# Altium footprint library Footprint-Lib-ABahlmann-IC.PcbLib: 79 footprints (part 3 of 5)
Each footprint in its own frame and in the unit in brackets; x right, y up, seen from the top. Pads: shape width x height; smd on the part's side, far side on the other; paste and mask are expansions set on the pad; w line width, h text height; cw(c..) or ccw(c..) is an arc to the next point about the centre after c.
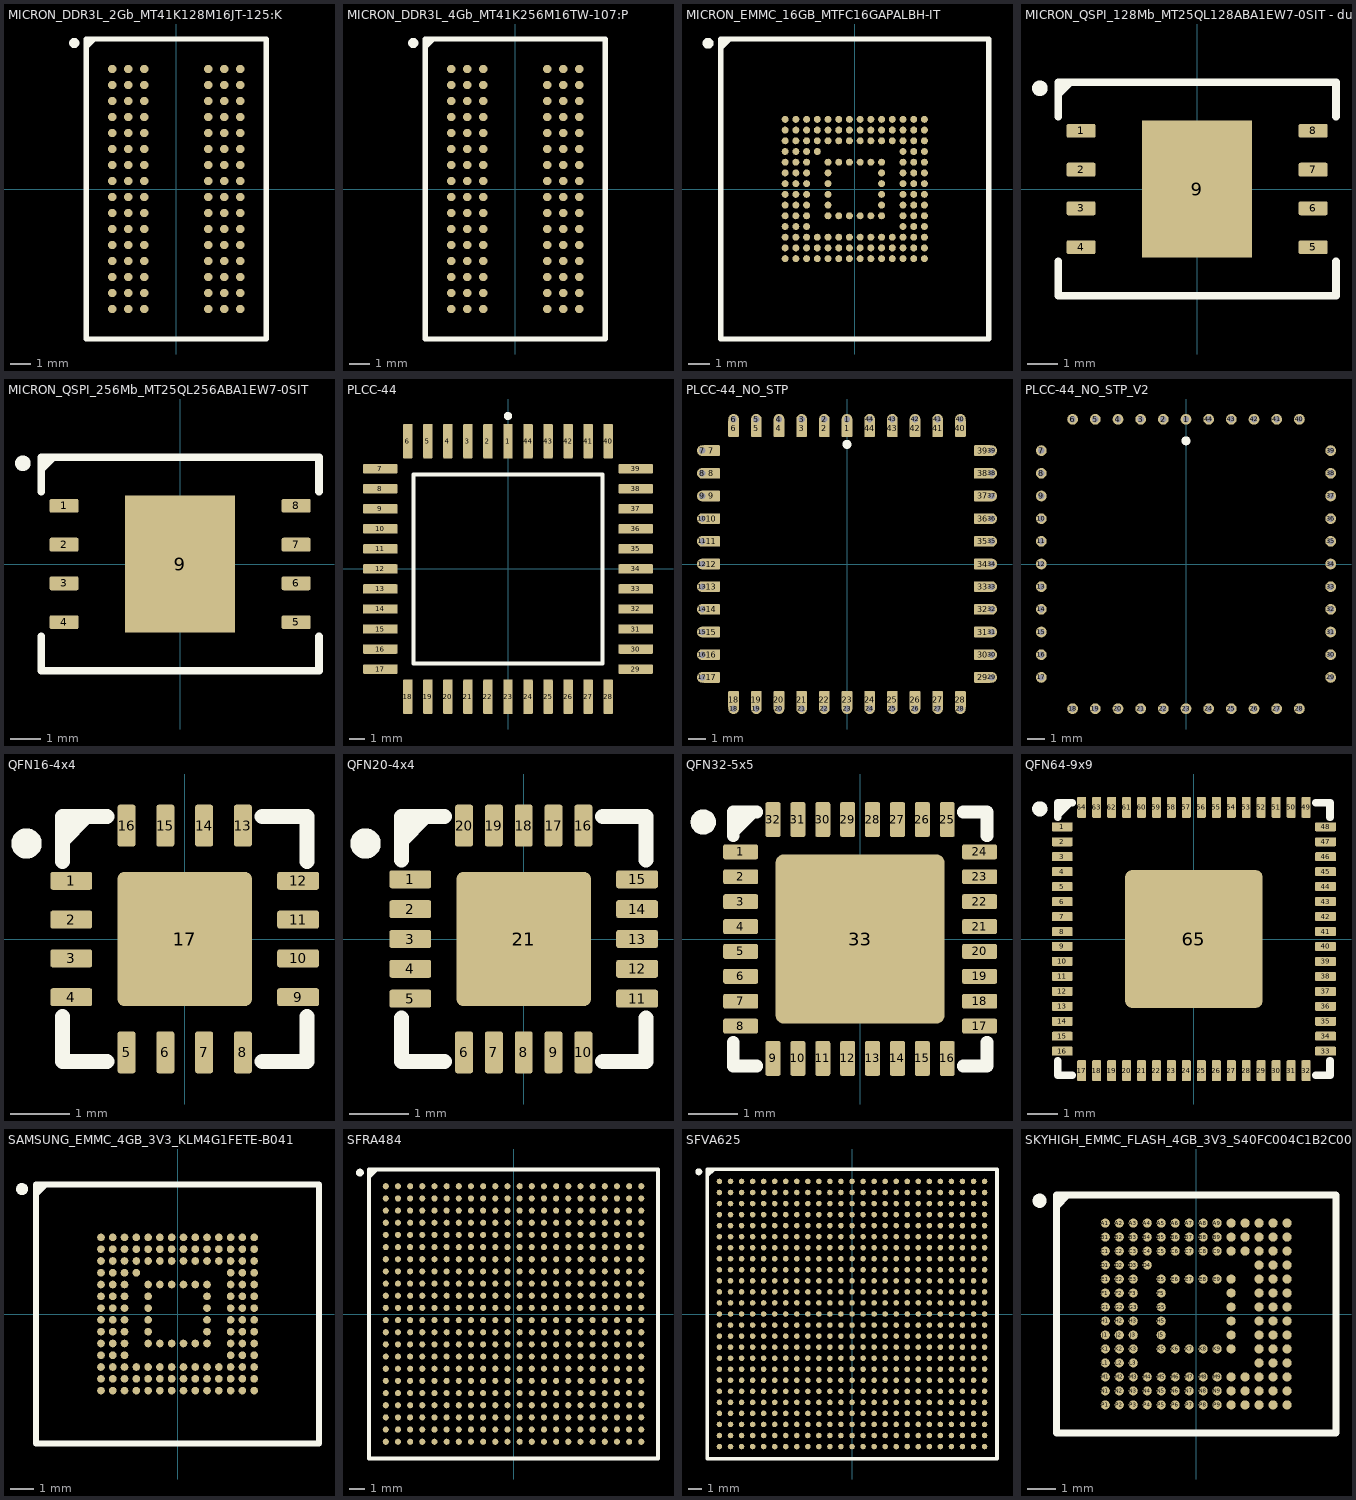
[diagram p2: the footprints below, top view; thin cyan lines are the x and y axes]

## MICRON_DDR3L_2Gb_MT41K128M16JT-125:K [mm] "SDRAM - DDR3L Memory IC 2Gbit Parallel 800 MHz 13.75 ns 96-FBGA (8x14)"
pads (96):
  round 0.42 smd mask+0.07: A1(-3.2,6) A2(-2.4,6) A3(-1.6,6) A7(1.6,6) A8(2.4,6) A9(3.2,6) B1(-3.2,5.2) B2(-2.4,5.2) B3(-1.6,5.2) B7(1.6,5.2) B8(2.4,5.2) B9(3.2,5.2) C1(-3.2,4.4) C2(-2.4,4.4) C3(-1.6,4.4) C7(1.6,4.4) C8(2.4,4.4) C9(3.2,4.4) D1(-3.2,3.6) D2(-2.4,3.6) D3(-1.6,3.6) D7(1.6,3.6) D8(2.4,3.6) D9(3.2,3.6) E1(-3.2,2.8) E2(-2.4,2.8) E3(-1.6,2.8) E7(1.6,2.8) E8(2.4,2.8) E9(3.2,2.8) F1(-3.2,2) F2(-2.4,2) F3(-1.6,2) F7(1.6,2) F8(2.4,2) F9(3.2,2) G1(-3.2,1.2) G2(-2.4,1.2) G3(-1.6,1.2) G7(1.6,1.2) G8(2.4,1.2) G9(3.2,1.2) H1(-3.2,0.4) H2(-2.4,0.4) H3(-1.6,0.4) H7(1.6,0.4) H8(2.4,0.4) H9(3.2,0.4) J1(-3.2,-0.4) J2(-2.4,-0.4) J3(-1.6,-0.4) J7(1.6,-0.4) J8(2.4,-0.4) J9(3.2,-0.4) K1(-3.2,-1.2) K2(-2.4,-1.2) K3(-1.6,-1.2) K7(1.6,-1.2) K8(2.4,-1.2) K9(3.2,-1.2) L1(-3.2,-2) L2(-2.4,-2) L3(-1.6,-2) L7(1.6,-2) L8(2.4,-2) L9(3.2,-2) M1(-3.2,-2.8) M2(-2.4,-2.8) M3(-1.6,-2.8) M7(1.6,-2.8) M8(2.4,-2.8) M9(3.2,-2.8) N1(-3.2,-3.6) N2(-2.4,-3.6) N3(-1.6,-3.6) N7(1.6,-3.6) N8(2.4,-3.6) N9(3.2,-3.6) P1(-3.2,-4.4) P2(-2.4,-4.4) P3(-1.6,-4.4) P7(1.6,-4.4) P8(2.4,-4.4) P9(3.2,-4.4) R1(-3.2,-5.2) R2(-2.4,-5.2) R3(-1.6,-5.2) R7(1.6,-5.2) R8(2.4,-5.2) R9(3.2,-5.2) T1(-3.2,-6) T2(-2.4,-6) T3(-1.6,-6) T7(1.6,-6) T8(2.4,-6) T9(3.2,-6)
Top Overlay:
  circle w0.254: c-5.1,7.3 r0.127
  lines w0.254: -4.5,7.1 -4.1,7.5 ; -4.5,-7.5 4.5,-7.5 4.5,7.5 -4.5,7.5 -4.5,-7.5
3D body "MT41K128M16JT-125_IT_K_TR.stp": height 1.2, standoff 0, extent -4,-7 4,7

## MICRON_DDR3L_4Gb_MT41K256M16TW-107:P [mm] "SDRAM - DDR3L Memory IC 4Gbit Parallel 933 MHz 20 ns 96-FBGA (8x14)"
pads (96):
  round 0.42 smd mask+0.07: A1(-3.2,6) A2(-2.4,6) A3(-1.6,6) A7(1.6,6) A8(2.4,6) A9(3.2,6) B1(-3.2,5.2) B2(-2.4,5.2) B3(-1.6,5.2) B7(1.6,5.2) B8(2.4,5.2) B9(3.2,5.2) C1(-3.2,4.4) C2(-2.4,4.4) C3(-1.6,4.4) C7(1.6,4.4) C8(2.4,4.4) C9(3.2,4.4) D1(-3.2,3.6) D2(-2.4,3.6) D3(-1.6,3.6) D7(1.6,3.6) D8(2.4,3.6) D9(3.2,3.6) E1(-3.2,2.8) E2(-2.4,2.8) E3(-1.6,2.8) E7(1.6,2.8) E8(2.4,2.8) E9(3.2,2.8) F1(-3.2,2) F2(-2.4,2) F3(-1.6,2) F7(1.6,2) F8(2.4,2) F9(3.2,2) G1(-3.2,1.2) G2(-2.4,1.2) G3(-1.6,1.2) G7(1.6,1.2) G8(2.4,1.2) G9(3.2,1.2) H1(-3.2,0.4) H2(-2.4,0.4) H3(-1.6,0.4) H7(1.6,0.4) H8(2.4,0.4) H9(3.2,0.4) J1(-3.2,-0.4) J2(-2.4,-0.4) J3(-1.6,-0.4) J7(1.6,-0.4) J8(2.4,-0.4) J9(3.2,-0.4) K1(-3.2,-1.2) K2(-2.4,-1.2) K3(-1.6,-1.2) K7(1.6,-1.2) K8(2.4,-1.2) K9(3.2,-1.2) L1(-3.2,-2) L2(-2.4,-2) L3(-1.6,-2) L7(1.6,-2) L8(2.4,-2) L9(3.2,-2) M1(-3.2,-2.8) M2(-2.4,-2.8) M3(-1.6,-2.8) M7(1.6,-2.8) M8(2.4,-2.8) M9(3.2,-2.8) N1(-3.2,-3.6) N2(-2.4,-3.6) N3(-1.6,-3.6) N7(1.6,-3.6) N8(2.4,-3.6) N9(3.2,-3.6) P1(-3.2,-4.4) P2(-2.4,-4.4) P3(-1.6,-4.4) P7(1.6,-4.4) P8(2.4,-4.4) P9(3.2,-4.4) R1(-3.2,-5.2) R2(-2.4,-5.2) R3(-1.6,-5.2) R7(1.6,-5.2) R8(2.4,-5.2) R9(3.2,-5.2) T1(-3.2,-6) T2(-2.4,-6) T3(-1.6,-6) T7(1.6,-6) T8(2.4,-6) T9(3.2,-6)
Top Overlay:
  circle w0.254: c-5.1,7.3 r0.127
  lines w0.254: -4.5,7.1 -4.1,7.5 ; -4.5,-7.5 -4.5,7.5 4.5,7.5 4.5,-7.5 -4.5,-7.5
3D body "MT41K256M16TW-107_P.stp": height 1.2, standoff 0, extent -4,-7 4,7

## MICRON_EMMC_16GB_MTFC16GAPALBH-IT [mm] "FLASH - NAND Memory IC 128Gbit MMC 153-TFBGA (11.5x13)"
pads (153):
  round 0.325 smd mask+0.05: A1(-3.25,3.25) A2(-2.75,3.25) A3(-2.25,3.25) A4(-1.75,3.25) A5(-1.25,3.25) A6(-0.75,3.25) A7(-0.25,3.25) A8(0.25,3.25) A9(0.75,3.25) A10(1.25,3.25) A11(1.75,3.25) A12(2.25,3.25) A13(2.75,3.25) A14(3.25,3.25) B1(-3.25,2.75) B2(-2.75,2.75) B3(-2.25,2.75) B4(-1.75,2.75) B5(-1.25,2.75) B6(-0.75,2.75) B7(-0.25,2.75) B8(0.25,2.75) B9(0.75,2.75) B10(1.25,2.75) B11(1.75,2.75) B12(2.25,2.75) B13(2.75,2.75) B14(3.25,2.75) C1(-3.25,2.25) C2(-2.75,2.25) C3(-2.25,2.25) C4(-1.75,2.25) C5(-1.25,2.25) C6(-0.75,2.25) C7(-0.25,2.25) C8(0.25,2.25) C9(0.75,2.25) C10(1.25,2.25) C11(1.75,2.25) C12(2.25,2.25) C13(2.75,2.25) C14(3.25,2.25) D1(-3.25,1.75) D2(-2.75,1.75) D3(-2.25,1.75) D4(-1.75,1.75) D12(2.25,1.75) D13(2.75,1.75) D14(3.25,1.75) E1(-3.25,1.25) E2(-2.75,1.25) E3(-2.25,1.25) E5(-1.25,1.25) E6(-0.75,1.25) E7(-0.25,1.25) E8(0.25,1.25) E9(0.75,1.25) E10(1.25,1.25) E12(2.25,1.25) E13(2.75,1.25) E14(3.25,1.25) F1(-3.25,0.75) F2(-2.75,0.75) F3(-2.25,0.75) F5(-1.25,0.75) F10(1.25,0.75) F12(2.25,0.75) F13(2.75,0.75) F14(3.25,0.75) G1(-3.25,0.25) G2(-2.75,0.25) G3(-2.25,0.25) G5(-1.25,0.25) G10(1.25,0.25) G12(2.25,0.25) G13(2.75,0.25) G14(3.25,0.25) H1(-3.25,-0.25) H2(-2.75,-0.25) H3(-2.25,-0.25) H5(-1.25,-0.25) H10(1.25,-0.25) H12(2.25,-0.25) H13(2.75,-0.25) H14(3.25,-0.25) J1(-3.25,-0.75) J2(-2.75,-0.75) J3(-2.25,-0.75) J5(-1.25,-0.75) J10(1.25,-0.75) J12(2.25,-0.75) J13(2.75,-0.75) J14(3.25,-0.75) K1(-3.25,-1.25) K2(-2.75,-1.25) K3(-2.25,-1.25) K5(-1.25,-1.25) K6(-0.75,-1.25) K7(-0.25,-1.25) K8(0.25,-1.25) K9(0.75,-1.25) K10(1.25,-1.25) K12(2.25,-1.25) K13(2.75,-1.25) K14(3.25,-1.25) L1(-3.25,-1.75) L2(-2.75,-1.75) L3(-2.25,-1.75) L12(2.25,-1.75) L13(2.75,-1.75) L14(3.25,-1.75) M1(-3.25,-2.25) M2(-2.75,-2.25) M3(-2.25,-2.25) M4(-1.75,-2.25) M5(-1.25,-2.25) M6(-0.75,-2.25) M7(-0.25,-2.25) M8(0.25,-2.25) M9(0.75,-2.25) M10(1.25,-2.25) M11(1.75,-2.25) M12(2.25,-2.25) M13(2.75,-2.25) M14(3.25,-2.25) N1(-3.25,-2.75) N2(-2.75,-2.75) N3(-2.25,-2.75) N4(-1.75,-2.75) N5(-1.25,-2.75) N6(-0.75,-2.75) N7(-0.25,-2.75) N8(0.25,-2.75) N9(0.75,-2.75) N10(1.25,-2.75) N11(1.75,-2.75) N12(2.25,-2.75) N13(2.75,-2.75) N14(3.25,-2.75) P1(-3.25,-3.25) P2(-2.75,-3.25) P3(-2.25,-3.25) P4(-1.75,-3.25) P5(-1.25,-3.25) P6(-0.75,-3.25) P7(-0.25,-3.25) P8(0.25,-3.25) P9(0.75,-3.25) P10(1.25,-3.25) P11(1.75,-3.25) P12(2.25,-3.25) P13(2.75,-3.25) P14(3.25,-3.25)
Top Overlay:
  circle w0.254: c-6.85,6.8 r0.127
  lines w0.254: -6.25,6.6 -5.85,7 ; -6.25,-7 6.25,-7 6.25,7 -6.25,7 -6.25,-7
3D body "MTFC16GAPALBH-IT.stp": height 0.79, standoff 0, extent -5.75,-6.5 5.75,6.5

## MICRON_QSPI_128Mb_MT25QL128ABA1EW7-0SIT - duplicate [mm] "FLASH - NOR Memory IC 128Mbit SPI - Quad I/O 133 MHz 8-WPDFN (6x5)(MLP8)"
pads (9):
  rrect25% 0.95x0.45 smd mask+0.1: 1(-3.8,1.905) 2(-3.8,0.635) 3(-3.8,-0.635) 4(-3.8,-1.905) 5(3.8,-1.905) 6(3.8,-0.635) 7(3.8,0.635) 8(3.8,1.905)
  rect 3.6x4.5 smd mask+0.1: 9(0,0)
Top Overlay:
  circle w0.254: c-5.15,3.3 r0.127
  lines w0.254: -4.55,-2.375 -4.55,-3.5 4.55,-3.5 4.55,-2.375 ; -4.55,2.375 -4.55,3.5 4.55,3.5 4.55,2.375 ; -4.55,3.1 -4.15,3.5
3D body "MT25QL128ABA1EW7-0SIT.stp": height 0.8, standoff 0, extent -4.05,-3 4.05,3

## MICRON_QSPI_256Mb_MT25QL256ABA1EW7-0SIT [mm] "FLASH - NOR Memory IC 256Mbit SPI - Quad I/O 133 MHz 8-WPDFN (6x5)(MLP8)8)"
pads (9):
  rrect25% 0.95x0.45 smd mask+0.1: 1(-3.8,1.905) 2(-3.8,0.635) 3(-3.8,-0.635) 4(-3.8,-1.905) 5(3.8,-1.905) 6(3.8,-0.635) 7(3.8,0.635) 8(3.8,1.905)
  rect 3.6x4.5 smd mask+0.1: 9(0,0)
Top Overlay:
  circle w0.254: c-5.15,3.3 r0.127
  lines w0.254: -4.55,-2.375 -4.55,-3.5 4.55,-3.5 4.55,-2.375 ; -4.55,2.375 -4.55,3.5 4.55,3.5 4.55,2.375 ; -4.55,3.1 -4.15,3.5
3D body "MT25QL128ABA1EW7-0SIT.stp": height 0.8, standoff 0, extent -4.05,-3 4.05,3

## PLCC-44 [mm]
pads (44):
  rrect25% 0.6x2.2 smd: 1(0,8.1) 2(-1.27,8.1) 3(-2.54,8.1) 4(-3.81,8.1) 5(-5.08,8.1) 6(-6.35,8.1) 18(-6.35,-8.1) 19(-5.08,-8.1) 20(-3.81,-8.1) 21(-2.54,-8.1) 22(-1.27,-8.1) 23(0,-8.1) 24(1.27,-8.1) 25(2.54,-8.1) 26(3.81,-8.1) 27(5.08,-8.1) 28(6.35,-8.1) 40(6.35,8.1) 41(5.08,8.1) 42(3.81,8.1) 43(2.54,8.1) 44(1.27,8.1)
  rrect25% 2.2x0.6 smd: 7(-8.1,6.35) 8(-8.1,5.08) 9(-8.1,3.81) 10(-8.1,2.54) 11(-8.1,1.27) 12(-8.1,0) 13(-8.1,-1.27) 14(-8.1,-2.54) 15(-8.1,-3.81) 16(-8.1,-5.08) 17(-8.1,-6.35) 29(8.1,-6.35) 30(8.1,-5.08) 31(8.1,-3.81) 32(8.1,-2.54) 33(8.1,-1.27) 34(8.1,0) 35(8.1,1.27) 36(8.1,2.54) 37(8.1,3.81) 38(8.1,5.08) 39(8.1,6.35)
Top Overlay:
  circle w0.254: c0,9.7 r0.127
  lines w0.254: -6,-6 -6,6 6,6 6,-6 -6,-6
3D body "User Library-PLCC44-1.step": height 4.35, standoff -0.01, extent -8.8,-8.75 8.8,8.85

## PLCC-44_NO_STP [mm]
pads (88):
  rrect25% 0.6x1 smd: 1(0,7.6) 2(-1.27,7.6) 3(-2.54,7.6) 4(-3.81,7.6) 5(-5.08,7.6) 6(-6.35,7.6) 18(-6.35,-7.6) 19(-5.08,-7.6) 20(-3.81,-7.6) 21(-2.54,-7.6) 22(-1.27,-7.6) 23(0,-7.6) 24(1.27,-7.6) 25(2.54,-7.6) 26(3.81,-7.6) 27(5.08,-7.6) 28(6.35,-7.6) 40(6.35,7.6) 41(5.08,7.6) 42(3.81,7.6) 43(2.54,7.6) 44(1.27,7.6)
  round 0.6 hole 0.35: 1(0,8.1) 2(-1.27,8.1) 3(-2.54,8.1) 4(-3.81,8.1) 5(-5.08,8.1) 6(-6.35,8.1) 7(-8.1,6.35) 8(-8.1,5.08) 9(-8.1,3.81) 10(-8.1,2.54) 11(-8.1,1.27) 12(-8.1,0) 13(-8.1,-1.27) 14(-8.1,-2.54) 15(-8.1,-3.81) 16(-8.1,-5.08) 17(-8.1,-6.35) 18(-6.35,-8.1) 19(-5.08,-8.1) 20(-3.81,-8.1) 21(-2.54,-8.1) 22(-1.27,-8.1) 23(0,-8.1) 24(1.27,-8.1) 25(2.54,-8.1) 26(3.81,-8.1) 27(5.08,-8.1) 28(6.35,-8.1) 29(8.1,-6.35) 30(8.1,-5.08) 31(8.1,-3.81) 32(8.1,-2.54) 33(8.1,-1.27) 34(8.1,0) 35(8.1,1.27) 36(8.1,2.54) 37(8.1,3.81) 38(8.1,5.08) 39(8.1,6.35) 40(6.35,8.1) 41(5.08,8.1) 42(3.81,8.1) 43(2.54,8.1) 44(1.27,8.1)
  rrect25% 1x0.6 smd: 7(-7.6,6.35) 8(-7.6,5.08) 9(-7.6,3.81) 10(-7.6,2.54) 11(-7.6,1.27) 12(-7.6,0) 13(-7.6,-1.27) 14(-7.6,-2.54) 15(-7.6,-3.81) 16(-7.6,-5.08) 17(-7.6,-6.35) 29(7.6,-6.35) 30(7.6,-5.08) 31(7.6,-3.81) 32(7.6,-2.54) 33(7.6,-1.27) 34(7.6,0) 35(7.6,1.27) 36(7.6,2.54) 37(7.6,3.81) 38(7.6,5.08) 39(7.6,6.35)
Top Overlay:
  circle w0.254: c0,6.7 r0.127
Bottom Overlay:
  circle w0.254: c0,6.7 r0.127

## PLCC-44_NO_STP_V2 [mm]
pads (44):
  round 0.6 hole 0.35: 1(0,8.1) 2(-1.27,8.1) 3(-2.54,8.1) 4(-3.81,8.1) 5(-5.08,8.1) 6(-6.35,8.1) 7(-8.1,6.35) 8(-8.1,5.08) 9(-8.1,3.81) 10(-8.1,2.54) 11(-8.1,1.27) 12(-8.1,0) 13(-8.1,-1.27) 14(-8.1,-2.54) 15(-8.1,-3.81) 16(-8.1,-5.08) 17(-8.1,-6.35) 18(-6.35,-8.1) 19(-5.08,-8.1) 20(-3.81,-8.1) 21(-2.54,-8.1) 22(-1.27,-8.1) 23(0,-8.1) 24(1.27,-8.1) 25(2.54,-8.1) 26(3.81,-8.1) 27(5.08,-8.1) 28(6.35,-8.1) 29(8.1,-6.35) 30(8.1,-5.08) 31(8.1,-3.81) 32(8.1,-2.54) 33(8.1,-1.27) 34(8.1,0) 35(8.1,1.27) 36(8.1,2.54) 37(8.1,3.81) 38(8.1,5.08) 39(8.1,6.35) 40(6.35,8.1) 41(5.08,8.1) 42(3.81,8.1) 43(2.54,8.1) 44(1.27,8.1)
Top Overlay:
  circle w0.254: c0,6.9 r0.127
Bottom Overlay:
  circle w0.254: c0,6.9 r0.127

## QFN16-4x4 [mm]
pads (17):
  rrect25% 0.7x0.3 smd mask+0.05: 1(-1.9,0.975) 2(-1.9,0.325) 3(-1.9,-0.325) 4(-1.9,-0.975) 9(1.9,-0.975) 10(1.9,-0.325) 11(1.9,0.325) 12(1.9,0.975)
  rrect25% 0.3x0.7 smd mask+0.05: 5(-0.975,-1.9) 6(-0.325,-1.9) 7(0.325,-1.9) 8(0.975,-1.9) 13(0.975,1.9) 14(0.325,1.9) 15(-0.325,1.9) 16(-0.975,1.9)
  rrect10% 2.25x2.25 smd mask+0.05: 17(0,0)
Top Overlay:
  circle w0.254: c-2.65,1.6 r0.127
  lines w0.254: -2.05,-1.3 -2.05,-2.05 -1.3,-2.05 ; -2.05,1.3 -2.05,2.05 -1.3,2.05 ; -2.05,1.65 -1.65,2.05 ; 1.3,-2.05 2.05,-2.05 2.05,-1.3 ; 1.3,2.05 2.05,2.05 2.05,1.3
3D body "FT230XQ-R.stp": height 0.81, standoff 0.01, extent -2.05,-2.05 2.05,2.05

## QFN20-4x4 [mm]
pads (21):
  rrect25% 0.7x0.3 smd mask+0.05: 1(-1.9,1) 2(-1.9,0.5) 3(-1.9,0) 4(-1.9,-0.5) 5(-1.9,-1) 11(1.9,-1) 12(1.9,-0.5) 13(1.9,0) 14(1.9,0.5) 15(1.9,1)
  rrect25% 0.3x0.7 smd mask+0.05: 6(-1,-1.9) 7(-0.5,-1.9) 8(0,-1.9) 9(0.5,-1.9) 10(1,-1.9) 16(1,1.9) 17(0.5,1.9) 18(0,1.9) 19(-0.5,1.9) 20(-1,1.9)
  rrect10% 2.25x2.25 smd mask+0.05: 21(0,0)
Top Overlay:
  circle w0.254: c-2.65,1.6 r0.127
  lines w0.254: -2.05,-1.325 -2.05,-2.05 -1.325,-2.05 ; -2.05,1.325 -2.05,2.05 -1.325,2.05 ; -2.05,1.65 -1.65,2.05 ; 1.325,-2.05 2.05,-2.05 2.05,-1.325 ; 1.325,2.05 2.05,2.05 2.05,1.325
3D body "FT231XQ-R.stp": height 0.8, standoff 0, extent -2.05,-2.05 2.05,2.05

## QFN32-5x5 [mm]
pads (33):
  rrect25% 0.7x0.3 smd mask+0.05: 1(-2.4,1.75) 2(-2.4,1.25) 3(-2.4,0.75) 4(-2.4,0.25) 5(-2.4,-0.25) 6(-2.4,-0.75) 7(-2.4,-1.25) 8(-2.4,-1.75) 17(2.4,-1.75) 18(2.4,-1.25) 19(2.4,-0.75) 20(2.4,-0.25) 21(2.4,0.25) 22(2.4,0.75) 23(2.4,1.25) 24(2.4,1.75)
  rrect25% 0.3x0.7 smd mask+0.05: 9(-1.75,-2.4) 10(-1.25,-2.4) 11(-0.75,-2.4) 12(-0.25,-2.4) 13(0.25,-2.4) 14(0.75,-2.4) 15(1.25,-2.4) 16(1.75,-2.4) 25(1.75,2.4) 26(1.25,2.4) 27(0.75,2.4) 28(0.25,2.4) 29(-0.25,2.4) 30(-0.75,2.4) 31(-1.25,2.4) 32(-1.75,2.4)
  rrect10% 3.4x3.4 smd mask+0.05: 33(0,0)
Top Overlay:
  circle w0.254: c-3.15,2.35 r0.127
  lines w0.254: -2.55,-2.075 -2.55,-2.55 -2.075,-2.55 ; -2.55,2.075 -2.55,2.55 -2.075,2.55 ; -2.55,2.15 -2.15,2.55 ; 2.075,-2.55 2.55,-2.55 2.55,-2.075 ; 2.075,2.55 2.55,2.55 2.55,2.075
3D body "FT232RNQ-REEL.stp": height 0.9, standoff 0, extent -2.55,-2.55 2.55,2.55

## QFN64-9x9 [mm]
pads (65):
  rrect25% 0.7x0.3 smd mask+0.05: 1(-4.4,3.75) 2(-4.4,3.25) 3(-4.4,2.75) 4(-4.4,2.25) 5(-4.4,1.75) 6(-4.4,1.25) 7(-4.4,0.75) 8(-4.4,0.25) 9(-4.4,-0.25) 10(-4.4,-0.75) 11(-4.4,-1.25) 12(-4.4,-1.75) 13(-4.4,-2.25) 14(-4.4,-2.75) 15(-4.4,-3.25) 16(-4.4,-3.75) 33(4.4,-3.75) 34(4.4,-3.25) 35(4.4,-2.75) 36(4.4,-2.25) 37(4.4,-1.75) 38(4.4,-1.25) 39(4.4,-0.75) 40(4.4,-0.25) 41(4.4,0.25) 42(4.4,0.75) 43(4.4,1.25) 44(4.4,1.75) 45(4.4,2.25) 46(4.4,2.75) 47(4.4,3.25) 48(4.4,3.75)
  rrect25% 0.3x0.7 smd mask+0.05: 17(-3.75,-4.4) 18(-3.25,-4.4) 19(-2.75,-4.4) 20(-2.25,-4.4) 21(-1.75,-4.4) 22(-1.25,-4.4) 23(-0.75,-4.4) 24(-0.25,-4.4) 25(0.25,-4.4) 26(0.75,-4.4) 27(1.25,-4.4) 28(1.75,-4.4) 29(2.25,-4.4) 30(2.75,-4.4) 31(3.25,-4.4) 32(3.75,-4.4) 49(3.75,4.4) 50(3.25,4.4) 51(2.75,4.4) 52(2.25,4.4) 53(1.75,4.4) 54(1.25,4.4) 55(0.75,4.4) 56(0.25,4.4) 57(-0.25,4.4) 58(-0.75,4.4) 59(-1.25,4.4) 60(-1.75,4.4) 61(-2.25,4.4) 62(-2.75,4.4) 63(-3.25,4.4) 64(-3.75,4.4)
  rrect10% 4.6x4.6 smd mask+0.05: 65(0,0)
Top Overlay:
  circle w0.254: c-5.15,4.35 r0.127
  lines w0.254: -4.55,-4.075 -4.55,-4.55 -4.075,-4.55 ; -4.55,4.075 -4.55,4.55 -4.075,4.55 ; -4.55,4.15 -4.15,4.55 ; 4.075,-4.55 4.55,-4.55 4.55,-4.075 ; 4.075,4.55 4.55,4.55 4.55,4.075
3D body "FT2232HQ-FT4232HQ-REEL.stp": height 1, standoff 0, extent -4.55,-4.55 4.55,4.55

## SAMSUNG_EMMC_4GB_3V3_KLM4G1FETE-B041 [mm] "FLASH - NAND Memory IC 4GByte (NAND) eMMC_5.1"
pads (153):
  round 0.325 smd mask+0.05: A1(-3.25,3.25) A2(-2.75,3.25) A3(-2.25,3.25) A4(-1.75,3.25) A5(-1.25,3.25) A6(-0.75,3.25) A7(-0.25,3.25) A8(0.25,3.25) A9(0.75,3.25) A10(1.25,3.25) A11(1.75,3.25) A12(2.25,3.25) A13(2.75,3.25) A14(3.25,3.25) B1(-3.25,2.75) B2(-2.75,2.75) B3(-2.25,2.75) B4(-1.75,2.75) B5(-1.25,2.75) B6(-0.75,2.75) B7(-0.25,2.75) B8(0.25,2.75) B9(0.75,2.75) B10(1.25,2.75) B11(1.75,2.75) B12(2.25,2.75) B13(2.75,2.75) B14(3.25,2.75) C1(-3.25,2.25) C2(-2.75,2.25) C3(-2.25,2.25) C4(-1.75,2.25) C5(-1.25,2.25) C6(-0.75,2.25) C7(-0.25,2.25) C8(0.25,2.25) C9(0.75,2.25) C10(1.25,2.25) C11(1.75,2.25) C12(2.25,2.25) C13(2.75,2.25) C14(3.25,2.25) D1(-3.25,1.75) D2(-2.75,1.75) D3(-2.25,1.75) D4(-1.75,1.75) D12(2.25,1.75) D13(2.75,1.75) D14(3.25,1.75) E1(-3.25,1.25) E2(-2.75,1.25) E3(-2.25,1.25) E5(-1.25,1.25) E6(-0.75,1.25) E7(-0.25,1.25) E8(0.25,1.25) E9(0.75,1.25) E10(1.25,1.25) E12(2.25,1.25) E13(2.75,1.25) E14(3.25,1.25) F1(-3.25,0.75) F2(-2.75,0.75) F3(-2.25,0.75) F5(-1.25,0.75) F10(1.25,0.75) F12(2.25,0.75) F13(2.75,0.75) F14(3.25,0.75) G1(-3.25,0.25) G2(-2.75,0.25) G3(-2.25,0.25) G5(-1.25,0.25) G10(1.25,0.25) G12(2.25,0.25) G13(2.75,0.25) G14(3.25,0.25) H1(-3.25,-0.25) H2(-2.75,-0.25) H3(-2.25,-0.25) H5(-1.25,-0.25) H10(1.25,-0.25) H12(2.25,-0.25) H13(2.75,-0.25) H14(3.25,-0.25) J1(-3.25,-0.75) J2(-2.75,-0.75) J3(-2.25,-0.75) J5(-1.25,-0.75) J10(1.25,-0.75) J12(2.25,-0.75) J13(2.75,-0.75) J14(3.25,-0.75) K1(-3.25,-1.25) K2(-2.75,-1.25) K3(-2.25,-1.25) K5(-1.25,-1.25) K6(-0.75,-1.25) K7(-0.25,-1.25) K8(0.25,-1.25) K9(0.75,-1.25) K10(1.25,-1.25) K12(2.25,-1.25) K13(2.75,-1.25) K14(3.25,-1.25) L1(-3.25,-1.75) L2(-2.75,-1.75) L3(-2.25,-1.75) L12(2.25,-1.75) L13(2.75,-1.75) L14(3.25,-1.75) M1(-3.25,-2.25) M2(-2.75,-2.25) M3(-2.25,-2.25) M4(-1.75,-2.25) M5(-1.25,-2.25) M6(-0.75,-2.25) M7(-0.25,-2.25) M8(0.25,-2.25) M9(0.75,-2.25) M10(1.25,-2.25) M11(1.75,-2.25) M12(2.25,-2.25) M13(2.75,-2.25) M14(3.25,-2.25) N1(-3.25,-2.75) N2(-2.75,-2.75) N3(-2.25,-2.75) N4(-1.75,-2.75) N5(-1.25,-2.75) N6(-0.75,-2.75) N7(-0.25,-2.75) N8(0.25,-2.75) N9(0.75,-2.75) N10(1.25,-2.75) N11(1.75,-2.75) N12(2.25,-2.75) N13(2.75,-2.75) N14(3.25,-2.75) P1(-3.25,-3.25) P2(-2.75,-3.25) P3(-2.25,-3.25) P4(-1.75,-3.25) P5(-1.25,-3.25) P6(-0.75,-3.25) P7(-0.25,-3.25) P8(0.25,-3.25) P9(0.75,-3.25) P10(1.25,-3.25) P11(1.75,-3.25) P12(2.25,-3.25) P13(2.75,-3.25) P14(3.25,-3.25)
Top Overlay:
  circle w0.254: c-6.6,5.3 r0.127
  lines w0.254: -6,5.1 -5.6,5.5 ; -6,-5.5 -6,5.5 6,5.5 6,-5.5 -6,-5.5
3D body "FBGA-153-11X10X0MM8.step": height 0.8, standoff 0, extent -5.5,-5 5.5,5

## SFRA484 [mm]
pads (484):
  round 0.4 smd mask+0.08: A1(-8.4,-8.4) A1(-8.4,-7.6) A1(-8.4,-6.8) A1(-8.4,-6) A1(-8.4,-5.2) A1(-8.4,-4.4) A1(-8.4,-3.6) A1(-8.4,-2.8) A1(-8.4,-2) A1(-8.4,-1.2) A1(-8.4,-0.4) A1(-8.4,0.4) A1(-8.4,1.2) A1(-8.4,2) A1(-8.4,2.8) A1(-8.4,3.6) A1(-8.4,4.4) A1(-8.4,5.2) A1(-8.4,6) A1(-8.4,6.8) A1(-8.4,7.6) A1(-8.4,8.4) A2(-7.6,-8.4) A2(-7.6,-7.6) A2(-7.6,-6.8) A2(-7.6,-6) A2(-7.6,-5.2) A2(-7.6,-4.4) A2(-7.6,-3.6) A2(-7.6,-2.8) A2(-7.6,-2) A2(-7.6,-1.2) A2(-7.6,-0.4) A2(-7.6,0.4) A2(-7.6,1.2) A2(-7.6,2) A2(-7.6,2.8) A2(-7.6,3.6) A2(-7.6,4.4) A2(-7.6,5.2) A2(-7.6,6) A2(-7.6,6.8) A2(-7.6,7.6) A2(-7.6,8.4) A3(-6.8,-8.4) A3(-6.8,-7.6) A3(-6.8,-6.8) A3(-6.8,-6) A3(-6.8,-5.2) A3(-6.8,-4.4) A3(-6.8,-3.6) A3(-6.8,-2.8) A3(-6.8,-2) A3(-6.8,-1.2) A3(-6.8,-0.4) A3(-6.8,0.4) A3(-6.8,1.2) A3(-6.8,2) A3(-6.8,2.8) A3(-6.8,3.6) A3(-6.8,4.4) A3(-6.8,5.2) A3(-6.8,6) A3(-6.8,6.8) A3(-6.8,7.6) A3(-6.8,8.4) A4(-6,-8.4) A4(-6,-7.6) A4(-6,-6.8) A4(-6,-6) A4(-6,-5.2) A4(-6,-4.4) A4(-6,-3.6) A4(-6,-2.8) A4(-6,-2) A4(-6,-1.2) A4(-6,-0.4) A4(-6,0.4) A4(-6,1.2) A4(-6,2) A4(-6,2.8) A4(-6,3.6) A4(-6,4.4) A4(-6,5.2) A4(-6,6) A4(-6,6.8) A4(-6,7.6) A4(-6,8.4) A5(-5.2,-8.4) A5(-5.2,-7.6) A5(-5.2,-6.8) A5(-5.2,-6) A5(-5.2,-5.2) A5(-5.2,-4.4) A5(-5.2,-3.6) A5(-5.2,-2.8) A5(-5.2,-2) A5(-5.2,-1.2) A5(-5.2,-0.4) A5(-5.2,0.4) A5(-5.2,1.2) A5(-5.2,2) A5(-5.2,2.8) A5(-5.2,3.6) A5(-5.2,4.4) A5(-5.2,5.2) A5(-5.2,6) A5(-5.2,6.8) A5(-5.2,7.6) A5(-5.2,8.4) A6(-4.4,-8.4) A6(-4.4,-7.6) A6(-4.4,-6.8) A6(-4.4,-6) A6(-4.4,-5.2) A6(-4.4,-4.4) A6(-4.4,-3.6) A6(-4.4,-2.8) A6(-4.4,-2) A6(-4.4,-1.2) A6(-4.4,-0.4) A6(-4.4,0.4) A6(-4.4,1.2) A6(-4.4,2) A6(-4.4,2.8) A6(-4.4,3.6) A6(-4.4,4.4) A6(-4.4,5.2) A6(-4.4,6) A6(-4.4,6.8) A6(-4.4,7.6) A6(-4.4,8.4) A7(-3.6,-8.4) A7(-3.6,-7.6) A7(-3.6,-6.8) A7(-3.6,-6) A7(-3.6,-5.2) A7(-3.6,-4.4) A7(-3.6,-3.6) A7(-3.6,-2.8) A7(-3.6,-2) A7(-3.6,-1.2) A7(-3.6,-0.4) A7(-3.6,0.4) A7(-3.6,1.2) A7(-3.6,2) A7(-3.6,2.8) A7(-3.6,3.6) A7(-3.6,4.4) A7(-3.6,5.2) A7(-3.6,6) A7(-3.6,6.8) A7(-3.6,7.6) A7(-3.6,8.4) A8(-2.8,-8.4) A8(-2.8,-7.6) A8(-2.8,-6.8) A8(-2.8,-6) A8(-2.8,-5.2) A8(-2.8,-4.4) A8(-2.8,-3.6) A8(-2.8,-2.8) A8(-2.8,-2) A8(-2.8,-1.2) A8(-2.8,-0.4) A8(-2.8,0.4) A8(-2.8,1.2) A8(-2.8,2) A8(-2.8,2.8) A8(-2.8,3.6) A8(-2.8,4.4) A8(-2.8,5.2) A8(-2.8,6) A8(-2.8,6.8) A8(-2.8,7.6) A8(-2.8,8.4) A9(-2,-8.4) A9(-2,-7.6) A9(-2,-6.8) A9(-2,-6) A9(-2,-5.2) A9(-2,-4.4) A9(-2,-3.6) A9(-2,-2.8) A9(-2,-2) A9(-2,-1.2) A9(-2,-0.4) A9(-2,0.4) A9(-2,1.2) A9(-2,2) A9(-2,2.8) A9(-2,3.6) A9(-2,4.4) A9(-2,5.2) A9(-2,6) A9(-2,6.8) A9(-2,7.6) A9(-2,8.4) A10(-1.2,-8.4) A10(-1.2,-7.6) A10(-1.2,-6.8) A10(-1.2,-6) A10(-1.2,-5.2) A10(-1.2,-4.4) A10(-1.2,-3.6) A10(-1.2,-2.8) A10(-1.2,-2) A10(-1.2,-1.2) A10(-1.2,-0.4) A10(-1.2,0.4) A10(-1.2,1.2) A10(-1.2,2) A10(-1.2,2.8) A10(-1.2,3.6) A10(-1.2,4.4) A10(-1.2,5.2) A10(-1.2,6) A10(-1.2,6.8) A10(-1.2,7.6) A10(-1.2,8.4) A11(-0.4,-8.4) A11(-0.4,-7.6) A11(-0.4,-6.8) A11(-0.4,-6) A11(-0.4,-5.2) A11(-0.4,-4.4) A11(-0.4,-3.6) A11(-0.4,-2.8) A11(-0.4,-2) A11(-0.4,-1.2) A11(-0.4,-0.4) A11(-0.4,0.4) A11(-0.4,1.2) A11(-0.4,2) A11(-0.4,2.8) A11(-0.4,3.6) A11(-0.4,4.4) A11(-0.4,5.2) A11(-0.4,6) A11(-0.4,6.8) A11(-0.4,7.6) A11(-0.4,8.4) A12(0.4,-8.4) A12(0.4,-7.6) A12(0.4,-6.8) A12(0.4,-6) A12(0.4,-5.2) A12(0.4,-4.4) A12(0.4,-3.6) A12(0.4,-2.8) A12(0.4,-2) A12(0.4,-1.2) A12(0.4,-0.4) A12(0.4,0.4) A12(0.4,1.2) A12(0.4,2) A12(0.4,2.8) A12(0.4,3.6) A12(0.4,4.4) A12(0.4,5.2) A12(0.4,6) A12(0.4,6.8) A12(0.4,7.6) A12(0.4,8.4) A13(1.2,-8.4) A13(1.2,-7.6) A13(1.2,-6.8) A13(1.2,-6) A13(1.2,-5.2) A13(1.2,-4.4) A13(1.2,-3.6) A13(1.2,-2.8) A13(1.2,-2) A13(1.2,-1.2) A13(1.2,-0.4) A13(1.2,0.4) A13(1.2,1.2) A13(1.2,2) A13(1.2,2.8) A13(1.2,3.6) A13(1.2,4.4) A13(1.2,5.2) A13(1.2,6) A13(1.2,6.8) A13(1.2,7.6) A13(1.2,8.4) A14(2,-8.4) A14(2,-7.6) A14(2,-6.8) A14(2,-6) A14(2,-5.2) A14(2,-4.4) A14(2,-3.6) A14(2,-2.8) A14(2,-2) A14(2,-1.2) A14(2,-0.4) A14(2,0.4) A14(2,1.2) A14(2,2) A14(2,2.8) A14(2,3.6) A14(2,4.4) A14(2,5.2) A14(2,6) A14(2,6.8) A14(2,7.6) A14(2,8.4) A15(2.8,-8.4) A15(2.8,-7.6) A15(2.8,-6.8) A15(2.8,-6) A15(2.8,-5.2) A15(2.8,-4.4) A15(2.8,-3.6) A15(2.8,-2.8) A15(2.8,-2) A15(2.8,-1.2) A15(2.8,-0.4) A15(2.8,0.4) A15(2.8,1.2) A15(2.8,2) A15(2.8,2.8) A15(2.8,3.6) A15(2.8,4.4) A15(2.8,5.2) A15(2.8,6) A15(2.8,6.8) A15(2.8,7.6) A15(2.8,8.4) A16(3.6,-8.4) A16(3.6,-7.6) A16(3.6,-6.8) A16(3.6,-6) A16(3.6,-5.2) A16(3.6,-4.4) A16(3.6,-3.6) A16(3.6,-2.8) A16(3.6,-2) A16(3.6,-1.2) A16(3.6,-0.4) A16(3.6,0.4) A16(3.6,1.2) A16(3.6,2) A16(3.6,2.8) A16(3.6,3.6) A16(3.6,4.4) A16(3.6,5.2) A16(3.6,6) A16(3.6,6.8) A16(3.6,7.6) A16(3.6,8.4) A17(4.4,-8.4) A17(4.4,-7.6) A17(4.4,-6.8) A17(4.4,-6) A17(4.4,-5.2) A17(4.4,-4.4) A17(4.4,-3.6) A17(4.4,-2.8) A17(4.4,-2) A17(4.4,-1.2) A17(4.4,-0.4) A17(4.4,0.4) A17(4.4,1.2) A17(4.4,2) A17(4.4,2.8) A17(4.4,3.6) A17(4.4,4.4) A17(4.4,5.2) A17(4.4,6) A17(4.4,6.8) A17(4.4,7.6) A17(4.4,8.4) A18(5.2,-8.4) A18(5.2,-7.6) A18(5.2,-6.8) A18(5.2,-6) A18(5.2,-5.2) A18(5.2,-4.4) A18(5.2,-3.6) A18(5.2,-2.8) A18(5.2,-2) A18(5.2,-1.2) A18(5.2,-0.4) A18(5.2,0.4) A18(5.2,1.2) A18(5.2,2) A18(5.2,2.8) A18(5.2,3.6) A18(5.2,4.4) A18(5.2,5.2) A18(5.2,6) A18(5.2,6.8) A18(5.2,7.6) A18(5.2,8.4) A19(6,-8.4) A19(6,-7.6) A19(6,-6.8) A19(6,-6) A19(6,-5.2) A19(6,-4.4) A19(6,-3.6) A19(6,-2.8) A19(6,-2) A19(6,-1.2) A19(6,-0.4) A19(6,0.4) A19(6,1.2) A19(6,2) A19(6,2.8) A19(6,3.6) A19(6,4.4) A19(6,5.2) A19(6,6) A19(6,6.8) A19(6,7.6) A19(6,8.4) A20(6.8,-8.4) A20(6.8,-7.6) A20(6.8,-6.8) A20(6.8,-6) A20(6.8,-5.2) A20(6.8,-4.4) A20(6.8,-3.6) A20(6.8,-2.8) A20(6.8,-2) A20(6.8,-1.2) A20(6.8,-0.4) A20(6.8,0.4) A20(6.8,1.2) A20(6.8,2) A20(6.8,2.8) A20(6.8,3.6) A20(6.8,4.4) A20(6.8,5.2) A20(6.8,6) A20(6.8,6.8) A20(6.8,7.6) A20(6.8,8.4) A21(7.6,-8.4) A21(7.6,-7.6) A21(7.6,-6.8) A21(7.6,-6) A21(7.6,-5.2) A21(7.6,-4.4) A21(7.6,-3.6) A21(7.6,-2.8) A21(7.6,-2) A21(7.6,-1.2) A21(7.6,-0.4) A21(7.6,0.4) A21(7.6,1.2) A21(7.6,2) A21(7.6,2.8) A21(7.6,3.6) A21(7.6,4.4) A21(7.6,5.2) A21(7.6,6) A21(7.6,6.8) A21(7.6,7.6) A21(7.6,8.4) A22(8.4,-8.4) A22(8.4,-7.6) A22(8.4,-6.8) A22(8.4,-6) A22(8.4,-5.2) A22(8.4,-4.4) A22(8.4,-3.6) A22(8.4,-2.8) A22(8.4,-2) A22(8.4,-1.2) A22(8.4,-0.4) A22(8.4,0.4) A22(8.4,1.2) A22(8.4,2) A22(8.4,2.8) A22(8.4,3.6) A22(8.4,4.4) A22(8.4,5.2) A22(8.4,6) A22(8.4,6.8) A22(8.4,7.6) A22(8.4,8.4)
Top Overlay:
  circle w0.254: c-10.1,9.3 r0.127
  lines w0.254: -9.5,9 -9,9.5 ; -9.5,9.2 -9.2,9.5 ; -9.5,-9.5 9.5,-9.5 9.5,9.5 -9.5,9.5 -9.5,-9.5

## SFVA625 [mm]
pads (625):
  round 0.4 smd mask+0.08: A1(-9.6,-9.6) A1(-9.6,-8.8) A1(-9.6,-8) A1(-9.6,-7.2) A1(-9.6,-6.4) A1(-9.6,-5.6) A1(-9.6,-4.8) A1(-9.6,-4) A1(-9.6,-3.2) A1(-9.6,-2.4) A1(-9.6,-1.6) A1(-9.6,-0.8) A1(-9.6,0) A1(-9.6,0.8) A1(-9.6,1.6) A1(-9.6,2.4) A1(-9.6,3.2) A1(-9.6,4) A1(-9.6,4.8) A1(-9.6,5.6) A1(-9.6,6.4) A1(-9.6,7.2) A1(-9.6,8) A1(-9.6,8.8) A1(-9.6,9.6) A2(-8.8,-9.6) A2(-8.8,-8.8) A2(-8.8,-8) A2(-8.8,-7.2) A2(-8.8,-6.4) A2(-8.8,-5.6) A2(-8.8,-4.8) A2(-8.8,-4) A2(-8.8,-3.2) A2(-8.8,-2.4) A2(-8.8,-1.6) A2(-8.8,-0.8) A2(-8.8,0) A2(-8.8,0.8) A2(-8.8,1.6) A2(-8.8,2.4) A2(-8.8,3.2) A2(-8.8,4) A2(-8.8,4.8) A2(-8.8,5.6) A2(-8.8,6.4) A2(-8.8,7.2) A2(-8.8,8) A2(-8.8,8.8) A2(-8.8,9.6) A3(-8,-9.6) A3(-8,-8.8) A3(-8,-8) A3(-8,-7.2) A3(-8,-6.4) A3(-8,-5.6) A3(-8,-4.8) A3(-8,-4) A3(-8,-3.2) A3(-8,-2.4) A3(-8,-1.6) A3(-8,-0.8) A3(-8,0) A3(-8,0.8) A3(-8,1.6) A3(-8,2.4) A3(-8,3.2) A3(-8,4) A3(-8,4.8) A3(-8,5.6) A3(-8,6.4) A3(-8,7.2) A3(-8,8) A3(-8,8.8) A3(-8,9.6) A4(-7.2,-9.6) A4(-7.2,-8.8) A4(-7.2,-8) A4(-7.2,-7.2) A4(-7.2,-6.4) A4(-7.2,-5.6) A4(-7.2,-4.8) A4(-7.2,-4) A4(-7.2,-3.2) A4(-7.2,-2.4) A4(-7.2,-1.6) A4(-7.2,-0.8) A4(-7.2,0) A4(-7.2,0.8) A4(-7.2,1.6) A4(-7.2,2.4) A4(-7.2,3.2) A4(-7.2,4) A4(-7.2,4.8) A4(-7.2,5.6) A4(-7.2,6.4) A4(-7.2,7.2) A4(-7.2,8) A4(-7.2,8.8) A4(-7.2,9.6) A5(-6.4,-9.6) A5(-6.4,-8.8) A5(-6.4,-8) A5(-6.4,-7.2) A5(-6.4,-6.4) A5(-6.4,-5.6) A5(-6.4,-4.8) A5(-6.4,-4) A5(-6.4,-3.2) A5(-6.4,-2.4) A5(-6.4,-1.6) A5(-6.4,-0.8) A5(-6.4,0) A5(-6.4,0.8) A5(-6.4,1.6) A5(-6.4,2.4) A5(-6.4,3.2) A5(-6.4,4) A5(-6.4,4.8) A5(-6.4,5.6) A5(-6.4,6.4) A5(-6.4,7.2) A5(-6.4,8) A5(-6.4,8.8) A5(-6.4,9.6) A6(-5.6,-9.6) A6(-5.6,-8.8) A6(-5.6,-8) A6(-5.6,-7.2) A6(-5.6,-6.4) A6(-5.6,-5.6) A6(-5.6,-4.8) A6(-5.6,-4) A6(-5.6,-3.2) A6(-5.6,-2.4) A6(-5.6,-1.6) A6(-5.6,-0.8) A6(-5.6,0) A6(-5.6,0.8) A6(-5.6,1.6) A6(-5.6,2.4) A6(-5.6,3.2) A6(-5.6,4) A6(-5.6,4.8) A6(-5.6,5.6) A6(-5.6,6.4) A6(-5.6,7.2) A6(-5.6,8) A6(-5.6,8.8) A6(-5.6,9.6) A7(-4.8,-9.6) A7(-4.8,-8.8) A7(-4.8,-8) A7(-4.8,-7.2) A7(-4.8,-6.4) A7(-4.8,-5.6) A7(-4.8,-4.8) A7(-4.8,-4) A7(-4.8,-3.2) A7(-4.8,-2.4) A7(-4.8,-1.6) A7(-4.8,-0.8) A7(-4.8,0) A7(-4.8,0.8) A7(-4.8,1.6) A7(-4.8,2.4) A7(-4.8,3.2) A7(-4.8,4) A7(-4.8,4.8) A7(-4.8,5.6) A7(-4.8,6.4) A7(-4.8,7.2) A7(-4.8,8) A7(-4.8,8.8) A7(-4.8,9.6) A8(-4,-9.6) A8(-4,-8.8) A8(-4,-8) A8(-4,-7.2) A8(-4,-6.4) A8(-4,-5.6) A8(-4,-4.8) A8(-4,-4) A8(-4,-3.2) A8(-4,-2.4) A8(-4,-1.6) A8(-4,-0.8) A8(-4,0) A8(-4,0.8) A8(-4,1.6) A8(-4,2.4) A8(-4,3.2) A8(-4,4) A8(-4,4.8) A8(-4,5.6) A8(-4,6.4) A8(-4,7.2) A8(-4,8) A8(-4,8.8) A8(-4,9.6) A9(-3.2,-9.6) A9(-3.2,-8.8) A9(-3.2,-8) A9(-3.2,-7.2) A9(-3.2,-6.4) A9(-3.2,-5.6) A9(-3.2,-4.8) A9(-3.2,-4) A9(-3.2,-3.2) A9(-3.2,-2.4) A9(-3.2,-1.6) A9(-3.2,-0.8) A9(-3.2,0) A9(-3.2,0.8) A9(-3.2,1.6) A9(-3.2,2.4) A9(-3.2,3.2) A9(-3.2,4) A9(-3.2,4.8) A9(-3.2,5.6) A9(-3.2,6.4) A9(-3.2,7.2) A9(-3.2,8) A9(-3.2,8.8) A9(-3.2,9.6) A10(-2.4,-9.6) A10(-2.4,-8.8) A10(-2.4,-8) A10(-2.4,-7.2) A10(-2.4,-6.4) A10(-2.4,-5.6) A10(-2.4,-4.8) A10(-2.4,-4) A10(-2.4,-3.2) A10(-2.4,-2.4) A10(-2.4,-1.6) A10(-2.4,-0.8) A10(-2.4,0) A10(-2.4,0.8) A10(-2.4,1.6) A10(-2.4,2.4) A10(-2.4,3.2) A10(-2.4,4) A10(-2.4,4.8) A10(-2.4,5.6) A10(-2.4,6.4) A10(-2.4,7.2) A10(-2.4,8) A10(-2.4,8.8) A10(-2.4,9.6) A11(-1.6,-9.6) A11(-1.6,-8.8) A11(-1.6,-8) A11(-1.6,-7.2) A11(-1.6,-6.4) A11(-1.6,-5.6) A11(-1.6,-4.8) A11(-1.6,-4) A11(-1.6,-3.2) A11(-1.6,-2.4) A11(-1.6,-1.6) A11(-1.6,-0.8) A11(-1.6,0) A11(-1.6,0.8) A11(-1.6,1.6) A11(-1.6,2.4) A11(-1.6,3.2) A11(-1.6,4) A11(-1.6,4.8) A11(-1.6,5.6) A11(-1.6,6.4) A11(-1.6,7.2) A11(-1.6,8) A11(-1.6,8.8) A11(-1.6,9.6) A12(-0.8,-9.6) A12(-0.8,-8.8) A12(-0.8,-8) A12(-0.8,-7.2) A12(-0.8,-6.4) A12(-0.8,-5.6) A12(-0.8,-4.8) A12(-0.8,-4) A12(-0.8,-3.2) A12(-0.8,-2.4) A12(-0.8,-1.6) A12(-0.8,-0.8) A12(-0.8,0) A12(-0.8,0.8) A12(-0.8,1.6) A12(-0.8,2.4) A12(-0.8,3.2) A12(-0.8,4) A12(-0.8,4.8) A12(-0.8,5.6) A12(-0.8,6.4) A12(-0.8,7.2) A12(-0.8,8) A12(-0.8,8.8) A12(-0.8,9.6) A13(0,-9.6) A13(0,-8.8) A13(0,-8) A13(0,-7.2) A13(0,-6.4) A13(0,-5.6) A13(0,-4.8) A13(0,-4) A13(0,-3.2) A13(0,-2.4) A13(0,-1.6) A13(0,-0.8) A13(0,0) A13(0,0.8) A13(0,1.6) A13(0,2.4) A13(0,3.2) A13(0,4) A13(0,4.8) A13(0,5.6) A13(0,6.4) A13(0,7.2) A13(0,8) A13(0,8.8) A13(0,9.6) A14(0.8,-9.6) A14(0.8,-8.8) A14(0.8,-8) A14(0.8,-7.2) A14(0.8,-6.4) A14(0.8,-5.6) A14(0.8,-4.8) A14(0.8,-4) A14(0.8,-3.2) A14(0.8,-2.4) A14(0.8,-1.6) A14(0.8,-0.8) A14(0.8,0) A14(0.8,0.8) A14(0.8,1.6) A14(0.8,2.4) A14(0.8,3.2) A14(0.8,4) A14(0.8,4.8) A14(0.8,5.6) A14(0.8,6.4) A14(0.8,7.2) A14(0.8,8) A14(0.8,8.8) A14(0.8,9.6) A15(1.6,-9.6) A15(1.6,-8.8) A15(1.6,-8) A15(1.6,-7.2) A15(1.6,-6.4) A15(1.6,-5.6) A15(1.6,-4.8) A15(1.6,-4) A15(1.6,-3.2) A15(1.6,-2.4) A15(1.6,-1.6) A15(1.6,-0.8) A15(1.6,0) A15(1.6,0.8) A15(1.6,1.6) A15(1.6,2.4) A15(1.6,3.2) A15(1.6,4) A15(1.6,4.8) A15(1.6,5.6) A15(1.6,6.4) A15(1.6,7.2) A15(1.6,8) A15(1.6,8.8) A15(1.6,9.6) A16(2.4,-9.6) A16(2.4,-8.8) A16(2.4,-8) A16(2.4,-7.2) A16(2.4,-6.4) A16(2.4,-5.6) A16(2.4,-4.8) A16(2.4,-4) A16(2.4,-3.2) A16(2.4,-2.4) A16(2.4,-1.6) A16(2.4,-0.8) A16(2.4,0) A16(2.4,0.8) A16(2.4,1.6) A16(2.4,2.4) A16(2.4,3.2) A16(2.4,4) A16(2.4,4.8) A16(2.4,5.6) A16(2.4,6.4) A16(2.4,7.2) A16(2.4,8) A16(2.4,8.8) A16(2.4,9.6) A17(3.2,-9.6) A17(3.2,-8.8) A17(3.2,-8) A17(3.2,-7.2) A17(3.2,-6.4) A17(3.2,-5.6) A17(3.2,-4.8) A17(3.2,-4) A17(3.2,-3.2) A17(3.2,-2.4) A17(3.2,-1.6) A17(3.2,-0.8) A17(3.2,0) A17(3.2,0.8) A17(3.2,1.6) A17(3.2,2.4) A17(3.2,3.2) A17(3.2,4) A17(3.2,4.8) A17(3.2,5.6) A17(3.2,6.4) A17(3.2,7.2) A17(3.2,8) A17(3.2,8.8) A17(3.2,9.6) A18(4,-9.6) A18(4,-8.8) A18(4,-8) A18(4,-7.2) A18(4,-6.4) A18(4,-5.6) A18(4,-4.8) A18(4,-4) A18(4,-3.2) A18(4,-2.4) A18(4,-1.6) A18(4,-0.8) A18(4,0) A18(4,0.8) A18(4,1.6) A18(4,2.4) A18(4,3.2) A18(4,4) A18(4,4.8) A18(4,5.6) A18(4,6.4) A18(4,7.2) A18(4,8) A18(4,8.8) A18(4,9.6) A19(4.8,-9.6) A19(4.8,-8.8) A19(4.8,-8) A19(4.8,-7.2) A19(4.8,-6.4) A19(4.8,-5.6) A19(4.8,-4.8) A19(4.8,-4) A19(4.8,-3.2) A19(4.8,-2.4) A19(4.8,-1.6) A19(4.8,-0.8) A19(4.8,0) A19(4.8,0.8) A19(4.8,1.6) A19(4.8,2.4) A19(4.8,3.2) A19(4.8,4) A19(4.8,4.8) A19(4.8,5.6) A19(4.8,6.4) A19(4.8,7.2) A19(4.8,8) A19(4.8,8.8) A19(4.8,9.6) A20(5.6,-9.6) A20(5.6,-8.8) A20(5.6,-8) A20(5.6,-7.2) A20(5.6,-6.4) A20(5.6,-5.6) A20(5.6,-4.8) A20(5.6,-4) A20(5.6,-3.2) A20(5.6,-2.4) A20(5.6,-1.6) A20(5.6,-0.8) A20(5.6,0) A20(5.6,0.8) A20(5.6,1.6) A20(5.6,2.4) A20(5.6,3.2) A20(5.6,4) A20(5.6,4.8) A20(5.6,5.6) A20(5.6,6.4) A20(5.6,7.2) A20(5.6,8) A20(5.6,8.8) A20(5.6,9.6) A21(6.4,-9.6) A21(6.4,-8.8) A21(6.4,-8) A21(6.4,-7.2) A21(6.4,-6.4) A21(6.4,-5.6) A21(6.4,-4.8) A21(6.4,-4) A21(6.4,-3.2) A21(6.4,-2.4) A21(6.4,-1.6) A21(6.4,-0.8) A21(6.4,0) A21(6.4,0.8) A21(6.4,1.6) A21(6.4,2.4) A21(6.4,3.2) A21(6.4,4) A21(6.4,4.8) A21(6.4,5.6) A21(6.4,6.4) A21(6.4,7.2) A21(6.4,8) A21(6.4,8.8) A21(6.4,9.6) A22(7.2,-9.6) A22(7.2,-8.8) A22(7.2,-8) A22(7.2,-7.2) A22(7.2,-6.4) A22(7.2,-5.6) A22(7.2,-4.8) A22(7.2,-4) A22(7.2,-3.2) A22(7.2,-2.4) A22(7.2,-1.6) A22(7.2,-0.8) A22(7.2,0) A22(7.2,0.8) A22(7.2,1.6) A22(7.2,2.4) A22(7.2,3.2) A22(7.2,4) A22(7.2,4.8) A22(7.2,5.6) A22(7.2,6.4) A22(7.2,7.2) A22(7.2,8) A22(7.2,8.8) A22(7.2,9.6) A22(8,-9.6) A22(8,-8.8) A22(8,-8) A22(8,-7.2) A22(8,-6.4) A22(8,-5.6) A22(8,-4.8) A22(8,-4) A22(8,-3.2) A22(8,-2.4) A22(8,-1.6) A22(8,-0.8) A22(8,0) A22(8,0.8) A22(8,1.6) A22(8,2.4) A22(8,3.2) A22(8,4) A22(8,4.8) A22(8,5.6) A22(8,6.4) A22(8,7.2) A22(8,8) A22(8,8.8) A22(8,9.6) A22(8.8,-9.6) A22(8.8,-8.8) A22(8.8,-8) A22(8.8,-7.2) A22(8.8,-6.4) A22(8.8,-5.6) A22(8.8,-4.8) A22(8.8,-4) A22(8.8,-3.2) A22(8.8,-2.4) A22(8.8,-1.6) A22(8.8,-0.8) A22(8.8,0) A22(8.8,0.8) A22(8.8,1.6) A22(8.8,2.4) A22(8.8,3.2) A22(8.8,4) A22(8.8,4.8) A22(8.8,5.6) A22(8.8,6.4) A22(8.8,7.2) A22(8.8,8) A22(8.8,8.8) A22(8.8,9.6) A22(9.6,-9.6) A22(9.6,-8.8) A22(9.6,-8) A22(9.6,-7.2) A22(9.6,-6.4) A22(9.6,-5.6) A22(9.6,-4.8) A22(9.6,-4) A22(9.6,-3.2) A22(9.6,-2.4) A22(9.6,-1.6) A22(9.6,-0.8) A22(9.6,0) A22(9.6,0.8) A22(9.6,1.6) A22(9.6,2.4) A22(9.6,3.2) A22(9.6,4) A22(9.6,4.8) A22(9.6,5.6) A22(9.6,6.4) A22(9.6,7.2) A22(9.6,8) A22(9.6,8.8) A22(9.6,9.6)
Top Overlay:
  circle w0.254: c-11.1,10.3 r0.127
  lines w0.254: -10.5,10 -10,10.5 ; -10.5,10.2 -10.2,10.5 ; -10.5,-10.5 10.5,-10.5 10.5,10.5 -10.5,10.5 -10.5,-10.5

## SKYHIGH_EMMC_FLASH_4GB_3V3_S40FC004C1B2C00000 [mm] "4GB, 3.3 V, eMMC Flash VFBGA153 9.0 x 7.5 x 0.8 mm"
pads (153):
  round 0.325 smd mask+0.05: A1(-3.25,3.25) A2(-2.75,3.25) A3(-2.25,3.25) A4(-1.75,3.25) A5(-1.25,3.25) A6(-0.75,3.25) A7(-0.25,3.25) A8(0.25,3.25) A9(0.75,3.25) A10(1.25,3.25) A11(1.75,3.25) A12(2.25,3.25) A13(2.75,3.25) A14(3.25,3.25) B1(-3.25,2.75) B2(-2.75,2.75) B3(-2.25,2.75) B4(-1.75,2.75) B5(-1.25,2.75) B6(-0.75,2.75) B7(-0.25,2.75) B8(0.25,2.75) B9(0.75,2.75) B10(1.25,2.75) B11(1.75,2.75) B12(2.25,2.75) B13(2.75,2.75) B14(3.25,2.75) C1(-3.25,2.25) C2(-2.75,2.25) C3(-2.25,2.25) C4(-1.75,2.25) C5(-1.25,2.25) C6(-0.75,2.25) C7(-0.25,2.25) C8(0.25,2.25) C9(0.75,2.25) C10(1.25,2.25) C11(1.75,2.25) C12(2.25,2.25) C13(2.75,2.25) C14(3.25,2.25) D1(-3.25,1.75) D2(-2.75,1.75) D3(-2.25,1.75) D4(-1.75,1.75) D12(2.25,1.75) D13(2.75,1.75) D14(3.25,1.75) E1(-3.25,1.25) E2(-2.75,1.25) E3(-2.25,1.25) E5(-1.25,1.25) E6(-0.75,1.25) E7(-0.25,1.25) E8(0.25,1.25) E9(0.75,1.25) E10(1.25,1.25) E12(2.25,1.25) E13(2.75,1.25) E14(3.25,1.25) F1(-3.25,0.75) F2(-2.75,0.75) F3(-2.25,0.75) F5(-1.25,0.75) F10(1.25,0.75) F12(2.25,0.75) F13(2.75,0.75) F14(3.25,0.75) G1(-3.25,0.25) G2(-2.75,0.25) G3(-2.25,0.25) G5(-1.25,0.25) G10(1.25,0.25) G12(2.25,0.25) G13(2.75,0.25) G14(3.25,0.25) H1(-3.25,-0.25) H2(-2.75,-0.25) H3(-2.25,-0.25) H5(-1.25,-0.25) H10(1.25,-0.25) H12(2.25,-0.25) H13(2.75,-0.25) H14(3.25,-0.25) J1(-3.25,-0.75) J2(-2.75,-0.75) J3(-2.25,-0.75) J5(-1.25,-0.75) J10(1.25,-0.75) J12(2.25,-0.75) J13(2.75,-0.75) J14(3.25,-0.75) K1(-3.25,-1.25) K2(-2.75,-1.25) K3(-2.25,-1.25) K5(-1.25,-1.25) K6(-0.75,-1.25) K7(-0.25,-1.25) K8(0.25,-1.25) K9(0.75,-1.25) K10(1.25,-1.25) K12(2.25,-1.25) K13(2.75,-1.25) K14(3.25,-1.25) L1(-3.25,-1.75) L2(-2.75,-1.75) L3(-2.25,-1.75) L12(2.25,-1.75) L13(2.75,-1.75) L14(3.25,-1.75) M1(-3.25,-2.25) M2(-2.75,-2.25) M3(-2.25,-2.25) M4(-1.75,-2.25) M5(-1.25,-2.25) M6(-0.75,-2.25) M7(-0.25,-2.25) M8(0.25,-2.25) M9(0.75,-2.25) M10(1.25,-2.25) M11(1.75,-2.25) M12(2.25,-2.25) M13(2.75,-2.25) M14(3.25,-2.25) N1(-3.25,-2.75) N2(-2.75,-2.75) N3(-2.25,-2.75) N4(-1.75,-2.75) N5(-1.25,-2.75) N6(-0.75,-2.75) N7(-0.25,-2.75) N8(0.25,-2.75) N9(0.75,-2.75) N10(1.25,-2.75) N11(1.75,-2.75) N12(2.25,-2.75) N13(2.75,-2.75) N14(3.25,-2.75) P1(-3.25,-3.25) P2(-2.75,-3.25) P3(-2.25,-3.25) P4(-1.75,-3.25) P5(-1.25,-3.25) P6(-0.75,-3.25) P7(-0.25,-3.25) P8(0.25,-3.25) P9(0.75,-3.25) P10(1.25,-3.25) P11(1.75,-3.25) P12(2.25,-3.25) P13(2.75,-3.25) P14(3.25,-3.25)
Top Overlay:
  circle w0.254: c-5.6,4.05 r0.127
  lines w0.254: -5,3.85 -4.6,4.25 ; -5,-4.25 5,-4.25 5,4.25 -5,4.25 -5,-4.25
3D body "S40FC004C1B2C00000.stp": height 0.8, standoff 0, extent -4.5,-3.75 4.5,3.75